# Altium schematic symbol library IR2113.SchLib: 1 symbol
Pins are listed as number, name and electrical type; pins without a type are passive.

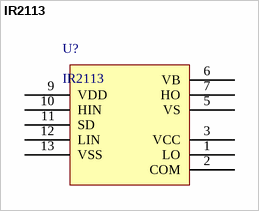
[diagram p0: symbol IR2113]

## IR2113
designator U?
pins: 1 LO, 2 COM, 3 VCC, 5 VS, 6 VB, 7 HO, 9 VDD, 10 HIN, 11 SD, 12 LIN, 13 VSS